# Altium footprint library DI_HPWT_Mx000-00000.PcbLib: 1 footprints
Each footprint in its own frame and in the unit in brackets; x right, y up, seen from the top. Pads: shape width x height; smd on the part's side, far side on the other; paste and mask are expansions set on the pad; w line width, h text height; cw(c..) or ccw(c..) is an arc to the next point about the centre after c.
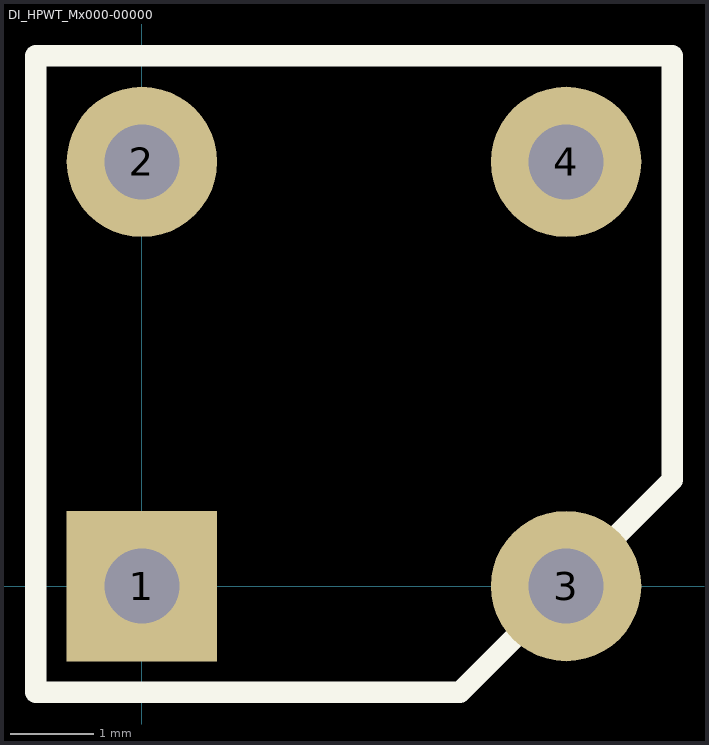
[diagram p0: the footprint, top view; thin cyan lines are the x and y axes]

## DI_HPWT_Mx000-00000 [mm]
pads (4):
  rect 1.8x1.8 hole 0.9: 1(0,0)
  round 1.8 hole 0.9: 2(0,5.08) 3(5.08,0) 4(5.08,5.08)
Top Overlay:
  lines w0.254: -1.27,-1.27 3.81,-1.27 6.35,1.27 6.35,6.35 -1.27,6.35 -1.27,-1.27
3D body: height 6.9, standoff -3.1, extent -1.27,-1.27 6.35,6.35